# Altium schematic symbol library SI-60118-F.SchLib: 1 symbol
Pins are listed as number, name and electrical type; pins without a type are passive.

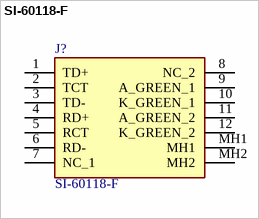
[diagram p0: symbol SI-60118-F]

## SI-60118-F
designator J?
MagJack 10/100BASE-T; Manufacturer_Name: BelFuse; Geometry.Height: 15.21mm; Mouser Part Number: 530-SI-60118-F; Mouser Price/Stock: https://www.mouser.com/Search/ProductDetail.aspx?qs=SRYZG9HaIQ1pVFtjOaj56g%3d%3d; Manufacturer_Part_Number: SI-60118-F; Datasheet Link: https://componentsearchengine.com/Datasheets/1/SI-60118-F.pdf
footprint SI60118F
pins: 1 TD+, 2 TCT, 3 TD-, 4 RD+, 5 RCT, 6 RD-, 7 NC_1, 8 NC_2, 9 A_GREEN_1, 10 K_GREEN_1, 11 A_GREEN_2, 12 K_GREEN_2, MH1, MH2